# Altium schematic symbol library Infineon.SchLib: 1 symbol
Pins are listed as number, name and electrical type; pins without a type are passive.

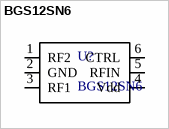
[diagram p0: symbol BGS12SN6]

## BGS12SN6
designator U?
Manufacturer: Infineon; Part Number: BGS12SN6; Price 1: 0.42; Price 100: 0.234; Price 1000: 0.131
footprint BGS12SN6 (Footprint not found)
pins: 1 RF2, 2 GND, 3 RF1, 4 Vdd, 5 RFIN, 6 CTRL